# Altium footprint library LM393DG.PcbLib: 3 footprints
Each footprint in its own frame and in the unit in brackets; x right, y up, seen from the top. Pads: shape width x height; smd on the part's side, far side on the other; paste and mask are expansions set on the pad; w line width, h text height; cw(c..) or ccw(c..) is an arc to the next point about the centre after c.
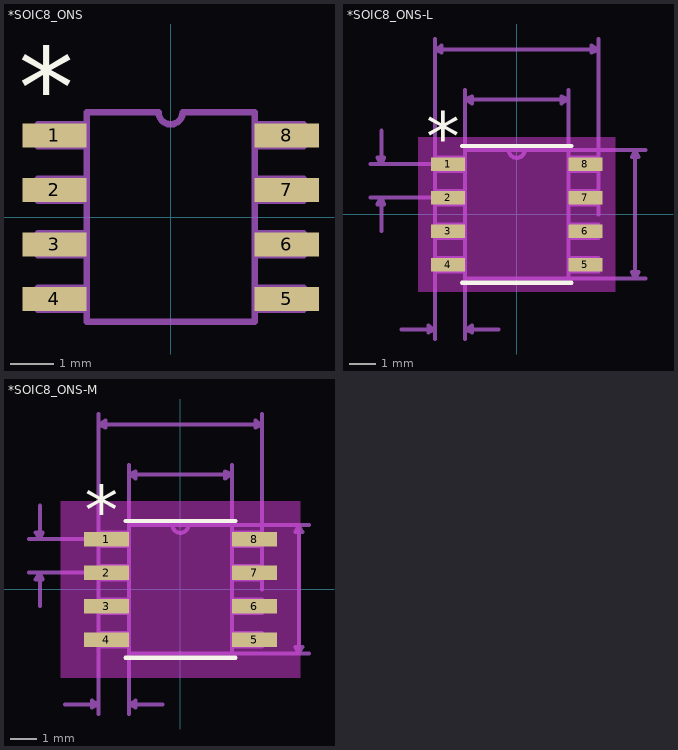
[diagram p0: the footprints below, top view; thin cyan lines are the x and y axes]

## *SOIC8_ONS [mil]
pads (8):
  rect 59x22 smd: 1(-106.5,75) 2(-106.5,25) 3(-106.5,-25) 4(-106.5,-75) 5(106.5,-75) 6(106.5,-25) 7(106.5,25) 8(106.5,75)
Top Overlay:
  text "*" at -139,82.16 h73.82
Mechanical 4:
  lines w6: -122,-85 -77,-85 ; -122,-85 -122,-65 ; -122,-85 -77,-85 ; -122,-85 -122,-65 ; -122,-65 -77,-65 ; -122,-65 -77,-65 ; -122,-35 -77,-35 ; -122,-35 -122,-15 ; -122,-35 -77,-35 ; -122,-35 -122,-15 ; -122,-15 -77,-15 ; -122,-15 -77,-15 ; -122,15 -77,15 ; -122,15 -122,35 ; -122,15 -77,15 ; -122,15 -122,35 ; -122,35 -77,35 ; -122,35 -77,35 ; -122,65 -77,65 ; -122,65 -122,85 ; -122,65 -77,65 ; -122,65 -122,85 ; -122,85 -77,85 ; -122,85 -77,85 ; -77,-96 -77,96 ; -77,-96 77,-96 ; -77,-96 -77,96 ; -77,-96 77,-96 ; -77,-85 -77,-65 ; -77,-85 -77,-65 ; -77,-35 -77,-15 ; -77,-35 -77,-15 ; -77,15 -77,35 ; -77,15 -77,35 ; -77,65 -77,85 ; -77,65 -77,85 ; -77,96 -11,96 ; -77,96 -11,96 ; -11,96 ccw(c0,96) 11,96 ; -11,96 ccw(c0,96) 11,96 ; 11,96 77,96 ; 11,96 77,96 ; 77,-96 77,96 ; 77,-96 77,96 ; 77,-85 122,-85 ; 77,-85 77,-65 ; 77,-85 122,-85 ; 77,-85 77,-65 ; 77,-65 122,-65 ; 77,-65 122,-65 ; 77,-35 122,-35 ; 77,-35 77,-15 ; 77,-35 122,-35 ; 77,-35 77,-15 ; 77,-15 122,-15 ; 77,-15 122,-15 ; 77,15 122,15 ; 77,15 77,35 ; 77,15 122,15 ; 77,15 77,35 ; 77,35 122,35 ; 77,35 122,35 ; 77,65 122,65 ; 77,65 77,85 ; 77,65 122,65 ; 77,65 77,85 ; 77,85 122,85 ; 77,85 122,85 ; 122,-85 122,-65 ; 122,-85 122,-65 ; 122,-35 122,-15 ; 122,-35 122,-15 ; 122,15 122,35 ; 122,15 122,35 ; 122,65 122,85 ; 122,65 122,85

## *SOIC8_ONS-L [mil]
pads (8):
  rect 51x20 smd: 1(-102.5,75) 2(-102.5,25) 3(-102.5,-25) 4(-102.5,-75) 5(102.5,-75) 6(102.5,-25) 7(102.5,25) 8(102.5,75)
Top Overlay:
  lines w6: -82,-102 82,-102 ; -82,102 82,102
  text "*" at -135,80.16 h73.82
Keep-Out Layer:
  region: -147,-115.5 -147,115.5 147,115.5 147,-115.5
  region: -147,-115.5 -147,115.5 147,115.5 147,-115.5
  region: -147,-115.5 -147,115.5 147,115.5 147,-115.5
Mechanical 4:
  drawing of 186 lines, arcs and shapes, not listed
  text "0.05in/1.27mm" at -236,-225.84 h73.82
  text "0.05in/1.27mm" at -495,28.16 h73.82
  text "0.193in/4.902mm" at 197,-21.84 h73.82
  text "0.244in/6.198mm" at -159,256.16 h73.82
  text "0.154in/3.912mm" at -159,182.16 h73.82
  text "Alt 2 Padstyle: OX90Y60D30P" at -583,-605.84 h73.82
  text "Alt 1 Padstyle: OX60Y90D30P" at -583,-545.84 h73.82
  text "Pin One Padstyle: RX51Y20D0T" at -613,-365.84 h73.82
  text "Default Padstyle: RX51Y20D0T" at -599,-305.84 h73.82
  text "*" at -85,34.16 h73.82
  text "0.05in/1.27mm" at -236,-225.84 h73.82
  text "0.05in/1.27mm" at -495,28.16 h73.82
  text "0.193in/4.902mm" at 197,-21.84 h73.82
  text "0.244in/6.198mm" at -159,256.16 h73.82
  text "0.154in/3.912mm" at -159,182.16 h73.82
  text "Alt 2 Padstyle: OX90Y60D30P" at -583,-605.84 h73.82
  text "Alt 1 Padstyle: OX60Y90D30P" at -583,-545.84 h73.82
  text "Pin One Padstyle: RX51Y20D0T" at -613,-365.84 h73.82
  text "Default Padstyle: RX51Y20D0T" at -599,-305.84 h73.82
  text "*" at -85,34.16 h73.82

## *SOIC8_ONS-M [mil]
pads (8):
  rect 67x22 smd: 1(-110.5,75) 2(-110.5,25) 3(-110.5,-25) 4(-110.5,-75) 5(110.5,-75) 6(110.5,-25) 7(110.5,25) 8(110.5,75)
Top Overlay:
  lines w6: -82,-102 82,-102 ; -82,102 82,102
  text "*" at -143,82.16 h73.82
Keep-Out Layer:
  region: -179,-131.5 -179,131.5 179,131.5 179,-131.5
  region: -179,-131.5 -179,131.5 179,131.5 179,-131.5
  region: -179,-131.5 -179,131.5 179,131.5 179,-131.5
Mechanical 4:
  drawing of 186 lines, arcs and shapes, not listed
  text "0.05in/1.27mm" at -236,-225.84 h73.82
  text "0.05in/1.27mm" at -503,28.16 h73.82
  text "0.193in/4.902mm" at 197,-21.84 h73.82
  text "0.244in/6.198mm" at -159,256.16 h73.82
  text "0.154in/3.912mm" at -159,182.16 h73.82
  text "Alt 2 Padstyle: OX90Y60D30P" at -583,-605.84 h73.82
  text "Alt 1 Padstyle: OX60Y90D30P" at -583,-545.84 h73.82
  text "Pin One Padstyle: RX67Y22D0T" at -613,-365.84 h73.82
  text "Default Padstyle: RX67Y22D0T" at -599,-305.84 h73.82
  text "*" at -85,34.16 h73.82
  text "0.05in/1.27mm" at -236,-225.84 h73.82
  text "0.05in/1.27mm" at -503,28.16 h73.82
  text "0.193in/4.902mm" at 197,-21.84 h73.82
  text "0.244in/6.198mm" at -159,256.16 h73.82
  text "0.154in/3.912mm" at -159,182.16 h73.82
  text "Alt 2 Padstyle: OX90Y60D30P" at -583,-605.84 h73.82
  text "Alt 1 Padstyle: OX60Y90D30P" at -583,-545.84 h73.82
  text "Pin One Padstyle: RX67Y22D0T" at -613,-365.84 h73.82
  text "Default Padstyle: RX67Y22D0T" at -599,-305.84 h73.82
  text "*" at -85,34.16 h73.82